# Altium integrated library TLV563x.IntLib: 30 symbols
Pins are listed as number, name and electrical type; pins without a type are passive.

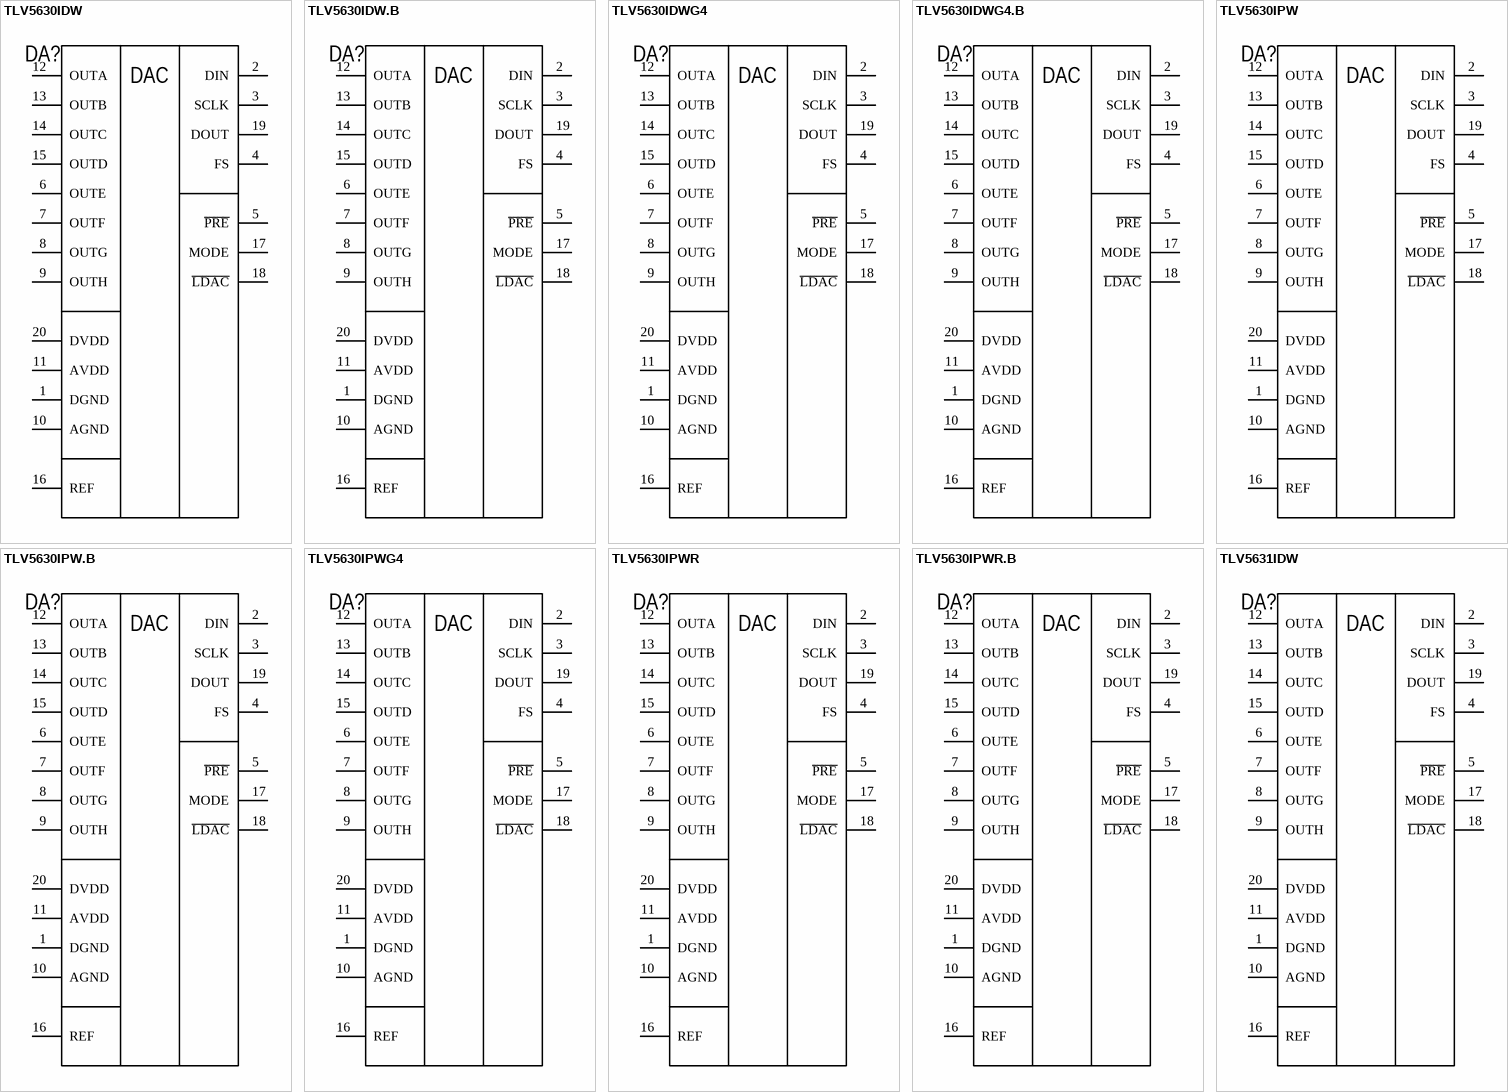
[diagram p0: symbols TLV5630IDW to TLV5631IDW]

## TLV5630IDW
designator DA?  (value not drawn)
8-CHANNEL, 12-/10-/8-BIT, 2.7-V TO 5.5-V LOW POWER DIGITAL-TO-ANALOG CONVERTERS WITH POWER DOWNANDINTERNAL REFERENCE
footprint DW0020A (SOIC, 20-Leads, Body 13.00x7.50 mm, IPC Medium Density)
pins: 1 DGND, 2 DIN, 3 SCLK, 4 FS, 5 ~{PRE}, 6 OUTE, 7 OUTF, 8 OUTG, 9 OUTH, 10 AGND, 11 AVDD, 12 OUTA, 13 OUTB, 14 OUTC, 15 OUTD, 16 REF, 17 MODE, 18 ~{LDAC}, 19 DOUT, 20 DVDD
text: DAC

## TLV5630IDW.B
designator DA?  (value not drawn)
8-CHANNEL, 12-/10-/8-BIT, 2.7-V TO 5.5-V LOW POWER DIGITAL-TO-ANALOG CONVERTERS WITH POWER DOWNANDINTERNAL REFERENCE
footprint DW0020A (SOIC, 20-Leads, Body 13.00x7.50 mm, IPC Medium Density)
pins: 1 DGND, 2 DIN, 3 SCLK, 4 FS, 5 ~{PRE}, 6 OUTE, 7 OUTF, 8 OUTG, 9 OUTH, 10 AGND, 11 AVDD, 12 OUTA, 13 OUTB, 14 OUTC, 15 OUTD, 16 REF, 17 MODE, 18 ~{LDAC}, 19 DOUT, 20 DVDD
text: DAC

## TLV5630IDWG4
designator DA?  (value not drawn)
8-CHANNEL, 12-/10-/8-BIT, 2.7-V TO 5.5-V LOW POWER DIGITAL-TO-ANALOG CONVERTERS WITH POWER DOWNANDINTERNAL REFERENCE
footprint DW0020A (SOIC, 20-Leads, Body 13.00x7.50 mm, IPC Medium Density)
pins: 1 DGND, 2 DIN, 3 SCLK, 4 FS, 5 ~{PRE}, 6 OUTE, 7 OUTF, 8 OUTG, 9 OUTH, 10 AGND, 11 AVDD, 12 OUTA, 13 OUTB, 14 OUTC, 15 OUTD, 16 REF, 17 MODE, 18 ~{LDAC}, 19 DOUT, 20 DVDD
text: DAC

## TLV5630IDWG4.B
designator DA?  (value not drawn)
8-CHANNEL, 12-/10-/8-BIT, 2.7-V TO 5.5-V LOW POWER DIGITAL-TO-ANALOG CONVERTERS WITH POWER DOWNANDINTERNAL REFERENCE
footprint DW0020A (SOIC, 20-Leads, Body 13.00x7.50 mm, IPC Medium Density)
pins: 1 DGND, 2 DIN, 3 SCLK, 4 FS, 5 ~{PRE}, 6 OUTE, 7 OUTF, 8 OUTG, 9 OUTH, 10 AGND, 11 AVDD, 12 OUTA, 13 OUTB, 14 OUTC, 15 OUTD, 16 REF, 17 MODE, 18 ~{LDAC}, 19 DOUT, 20 DVDD
text: DAC

## TLV5630IPW
designator DA?  (value not drawn)
8-CHANNEL, 12-/10-/8-BIT, 2.7-V TO 5.5-V LOW POWER DIGITAL-TO-ANALOG CONVERTERS WITH POWER DOWNANDINTERNAL REFERENCE
footprint PW0020A (TSSOP, 20-Leads, Body 6.50x4.50 mm, IPC Medium Density)
pins: 1 DGND, 2 DIN, 3 SCLK, 4 FS, 5 ~{PRE}, 6 OUTE, 7 OUTF, 8 OUTG, 9 OUTH, 10 AGND, 11 AVDD, 12 OUTA, 13 OUTB, 14 OUTC, 15 OUTD, 16 REF, 17 MODE, 18 ~{LDAC}, 19 DOUT, 20 DVDD
text: DAC

## TLV5630IPW.B
designator DA?  (value not drawn)
8-CHANNEL, 12-/10-/8-BIT, 2.7-V TO 5.5-V LOW POWER DIGITAL-TO-ANALOG CONVERTERS WITH POWER DOWNANDINTERNAL REFERENCE
footprint PW0020A (TSSOP, 20-Leads, Body 6.50x4.50 mm, IPC Medium Density)
pins: 1 DGND, 2 DIN, 3 SCLK, 4 FS, 5 ~{PRE}, 6 OUTE, 7 OUTF, 8 OUTG, 9 OUTH, 10 AGND, 11 AVDD, 12 OUTA, 13 OUTB, 14 OUTC, 15 OUTD, 16 REF, 17 MODE, 18 ~{LDAC}, 19 DOUT, 20 DVDD
text: DAC

## TLV5630IPWG4
designator DA?  (value not drawn)
8-CHANNEL, 12-/10-/8-BIT, 2.7-V TO 5.5-V LOW POWER DIGITAL-TO-ANALOG CONVERTERS WITH POWER DOWNANDINTERNAL REFERENCE
footprint PW0020A (TSSOP, 20-Leads, Body 6.50x4.50 mm, IPC Medium Density)
pins: 1 DGND, 2 DIN, 3 SCLK, 4 FS, 5 ~{PRE}, 6 OUTE, 7 OUTF, 8 OUTG, 9 OUTH, 10 AGND, 11 AVDD, 12 OUTA, 13 OUTB, 14 OUTC, 15 OUTD, 16 REF, 17 MODE, 18 ~{LDAC}, 19 DOUT, 20 DVDD
text: DAC

## TLV5630IPWR
designator DA?  (value not drawn)
8-CHANNEL, 12-/10-/8-BIT, 2.7-V TO 5.5-V LOW POWER DIGITAL-TO-ANALOG CONVERTERS WITH POWER DOWNANDINTERNAL REFERENCE
footprint PW0020A (TSSOP, 20-Leads, Body 6.50x4.50 mm, IPC Medium Density)
pins: 1 DGND, 2 DIN, 3 SCLK, 4 FS, 5 ~{PRE}, 6 OUTE, 7 OUTF, 8 OUTG, 9 OUTH, 10 AGND, 11 AVDD, 12 OUTA, 13 OUTB, 14 OUTC, 15 OUTD, 16 REF, 17 MODE, 18 ~{LDAC}, 19 DOUT, 20 DVDD
text: DAC

## TLV5630IPWR.B
designator DA?  (value not drawn)
8-CHANNEL, 12-/10-/8-BIT, 2.7-V TO 5.5-V LOW POWER DIGITAL-TO-ANALOG CONVERTERS WITH POWER DOWNANDINTERNAL REFERENCE
footprint PW0020A (TSSOP, 20-Leads, Body 6.50x4.50 mm, IPC Medium Density)
pins: 1 DGND, 2 DIN, 3 SCLK, 4 FS, 5 ~{PRE}, 6 OUTE, 7 OUTF, 8 OUTG, 9 OUTH, 10 AGND, 11 AVDD, 12 OUTA, 13 OUTB, 14 OUTC, 15 OUTD, 16 REF, 17 MODE, 18 ~{LDAC}, 19 DOUT, 20 DVDD
text: DAC

## TLV5631IDW
designator DA?  (value not drawn)
8-CHANNEL, 12-/10-/8-BIT, 2.7-V TO 5.5-V LOW POWER DIGITAL-TO-ANALOG CONVERTERS WITH POWER DOWNANDINTERNAL REFERENCE
footprint DW0020A (SOIC, 20-Leads, Body 13.00x7.50 mm, IPC Medium Density)
pins: 1 DGND, 2 DIN, 3 SCLK, 4 FS, 5 ~{PRE}, 6 OUTE, 7 OUTF, 8 OUTG, 9 OUTH, 10 AGND, 11 AVDD, 12 OUTA, 13 OUTB, 14 OUTC, 15 OUTD, 16 REF, 17 MODE, 18 ~{LDAC}, 19 DOUT, 20 DVDD
text: DAC

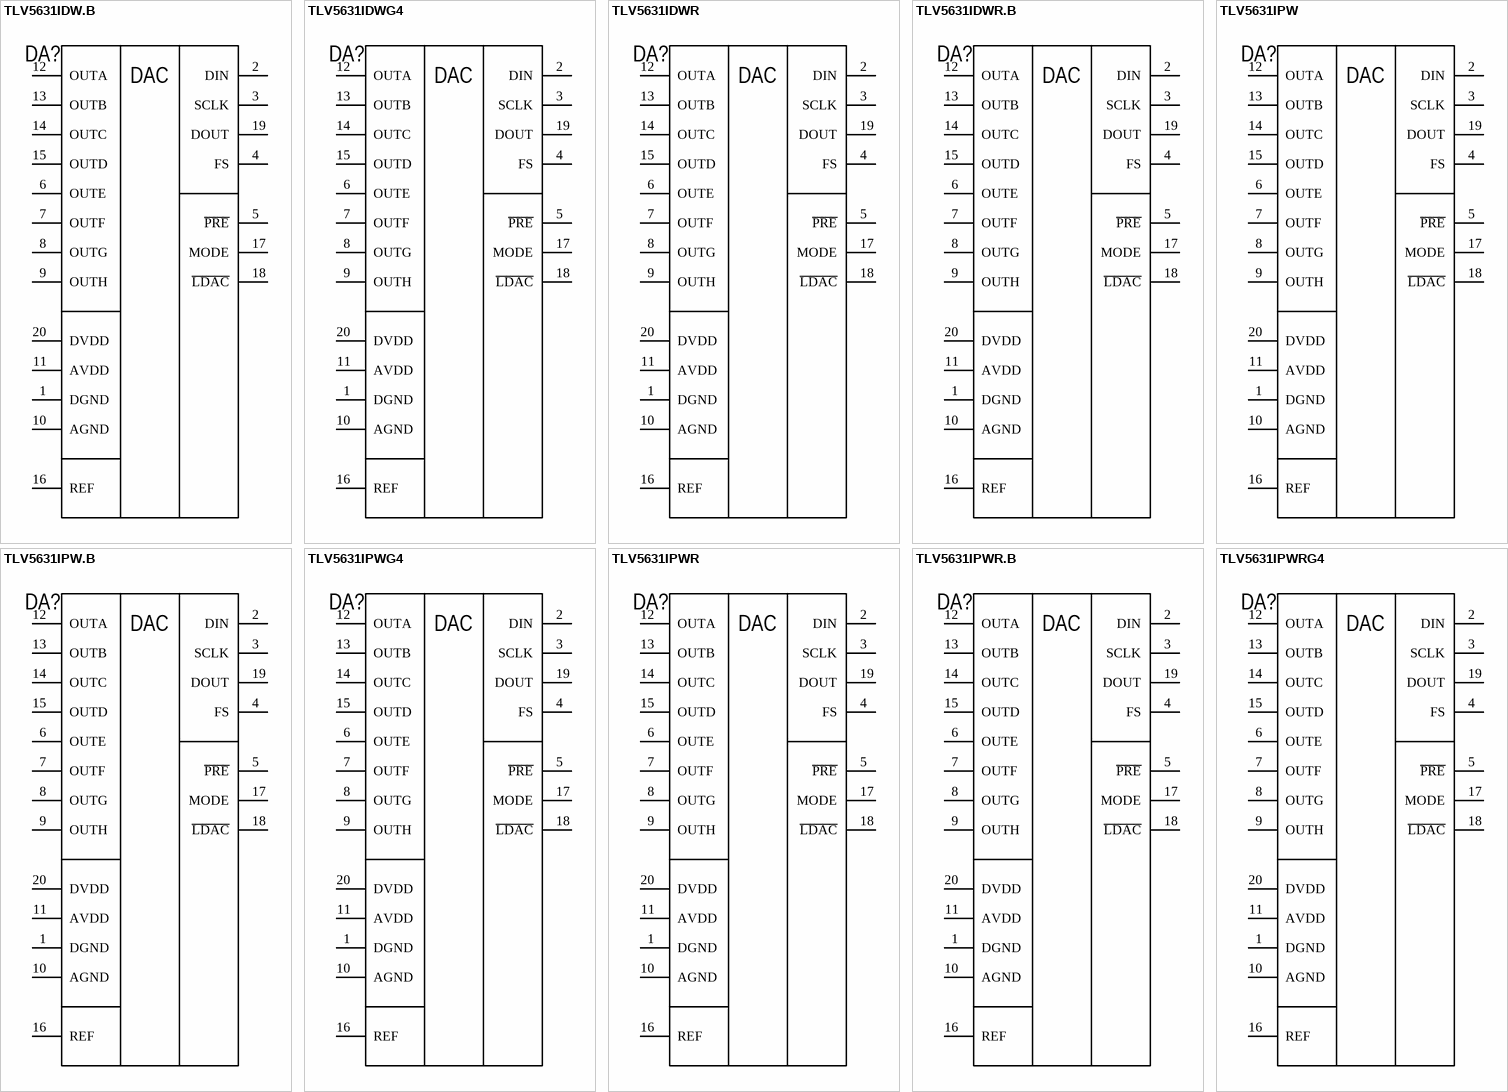
[diagram p1: symbols TLV5631IDW.B to TLV5631IPWRG4]

## TLV5631IDW.B
designator DA?  (value not drawn)
8-CHANNEL, 12-/10-/8-BIT, 2.7-V TO 5.5-V LOW POWER DIGITAL-TO-ANALOG CONVERTERS WITH POWER DOWNANDINTERNAL REFERENCE
footprint DW0020A (SOIC, 20-Leads, Body 13.00x7.50 mm, IPC Medium Density)
pins: 1 DGND, 2 DIN, 3 SCLK, 4 FS, 5 ~{PRE}, 6 OUTE, 7 OUTF, 8 OUTG, 9 OUTH, 10 AGND, 11 AVDD, 12 OUTA, 13 OUTB, 14 OUTC, 15 OUTD, 16 REF, 17 MODE, 18 ~{LDAC}, 19 DOUT, 20 DVDD
text: DAC

## TLV5631IDWG4
designator DA?  (value not drawn)
8-CHANNEL, 12-/10-/8-BIT, 2.7-V TO 5.5-V LOW POWER DIGITAL-TO-ANALOG CONVERTERS WITH POWER DOWNANDINTERNAL REFERENCE
footprint DW0020A (SOIC, 20-Leads, Body 13.00x7.50 mm, IPC Medium Density)
pins: 1 DGND, 2 DIN, 3 SCLK, 4 FS, 5 ~{PRE}, 6 OUTE, 7 OUTF, 8 OUTG, 9 OUTH, 10 AGND, 11 AVDD, 12 OUTA, 13 OUTB, 14 OUTC, 15 OUTD, 16 REF, 17 MODE, 18 ~{LDAC}, 19 DOUT, 20 DVDD
text: DAC

## TLV5631IDWR
designator DA?  (value not drawn)
8-CHANNEL, 12-/10-/8-BIT, 2.7-V TO 5.5-V LOW POWER DIGITAL-TO-ANALOG CONVERTERS WITH POWER DOWNANDINTERNAL REFERENCE
footprint DW0020A (SOIC, 20-Leads, Body 13.00x7.50 mm, IPC Medium Density)
pins: 1 DGND, 2 DIN, 3 SCLK, 4 FS, 5 ~{PRE}, 6 OUTE, 7 OUTF, 8 OUTG, 9 OUTH, 10 AGND, 11 AVDD, 12 OUTA, 13 OUTB, 14 OUTC, 15 OUTD, 16 REF, 17 MODE, 18 ~{LDAC}, 19 DOUT, 20 DVDD
text: DAC

## TLV5631IDWR.B
designator DA?  (value not drawn)
8-CHANNEL, 12-/10-/8-BIT, 2.7-V TO 5.5-V LOW POWER DIGITAL-TO-ANALOG CONVERTERS WITH POWER DOWNANDINTERNAL REFERENCE
footprint DW0020A (SOIC, 20-Leads, Body 13.00x7.50 mm, IPC Medium Density)
pins: 1 DGND, 2 DIN, 3 SCLK, 4 FS, 5 ~{PRE}, 6 OUTE, 7 OUTF, 8 OUTG, 9 OUTH, 10 AGND, 11 AVDD, 12 OUTA, 13 OUTB, 14 OUTC, 15 OUTD, 16 REF, 17 MODE, 18 ~{LDAC}, 19 DOUT, 20 DVDD
text: DAC

## TLV5631IPW
designator DA?  (value not drawn)
8-CHANNEL, 12-/10-/8-BIT, 2.7-V TO 5.5-V LOW POWER DIGITAL-TO-ANALOG CONVERTERS WITH POWER DOWNANDINTERNAL REFERENCE
footprint PW0020A (TSSOP, 20-Leads, Body 6.50x4.50 mm, IPC Medium Density)
pins: 1 DGND, 2 DIN, 3 SCLK, 4 FS, 5 ~{PRE}, 6 OUTE, 7 OUTF, 8 OUTG, 9 OUTH, 10 AGND, 11 AVDD, 12 OUTA, 13 OUTB, 14 OUTC, 15 OUTD, 16 REF, 17 MODE, 18 ~{LDAC}, 19 DOUT, 20 DVDD
text: DAC

## TLV5631IPW.B
designator DA?  (value not drawn)
8-CHANNEL, 12-/10-/8-BIT, 2.7-V TO 5.5-V LOW POWER DIGITAL-TO-ANALOG CONVERTERS WITH POWER DOWNANDINTERNAL REFERENCE
footprint PW0020A (TSSOP, 20-Leads, Body 6.50x4.50 mm, IPC Medium Density)
pins: 1 DGND, 2 DIN, 3 SCLK, 4 FS, 5 ~{PRE}, 6 OUTE, 7 OUTF, 8 OUTG, 9 OUTH, 10 AGND, 11 AVDD, 12 OUTA, 13 OUTB, 14 OUTC, 15 OUTD, 16 REF, 17 MODE, 18 ~{LDAC}, 19 DOUT, 20 DVDD
text: DAC

## TLV5631IPWG4
designator DA?  (value not drawn)
8-CHANNEL, 12-/10-/8-BIT, 2.7-V TO 5.5-V LOW POWER DIGITAL-TO-ANALOG CONVERTERS WITH POWER DOWNANDINTERNAL REFERENCE
footprint PW0020A (TSSOP, 20-Leads, Body 6.50x4.50 mm, IPC Medium Density)
pins: 1 DGND, 2 DIN, 3 SCLK, 4 FS, 5 ~{PRE}, 6 OUTE, 7 OUTF, 8 OUTG, 9 OUTH, 10 AGND, 11 AVDD, 12 OUTA, 13 OUTB, 14 OUTC, 15 OUTD, 16 REF, 17 MODE, 18 ~{LDAC}, 19 DOUT, 20 DVDD
text: DAC

## TLV5631IPWR
designator DA?  (value not drawn)
8-CHANNEL, 12-/10-/8-BIT, 2.7-V TO 5.5-V LOW POWER DIGITAL-TO-ANALOG CONVERTERS WITH POWER DOWNANDINTERNAL REFERENCE
footprint PW0020A (TSSOP, 20-Leads, Body 6.50x4.50 mm, IPC Medium Density)
pins: 1 DGND, 2 DIN, 3 SCLK, 4 FS, 5 ~{PRE}, 6 OUTE, 7 OUTF, 8 OUTG, 9 OUTH, 10 AGND, 11 AVDD, 12 OUTA, 13 OUTB, 14 OUTC, 15 OUTD, 16 REF, 17 MODE, 18 ~{LDAC}, 19 DOUT, 20 DVDD
text: DAC

## TLV5631IPWR.B
designator DA?  (value not drawn)
8-CHANNEL, 12-/10-/8-BIT, 2.7-V TO 5.5-V LOW POWER DIGITAL-TO-ANALOG CONVERTERS WITH POWER DOWNANDINTERNAL REFERENCE
footprint PW0020A (TSSOP, 20-Leads, Body 6.50x4.50 mm, IPC Medium Density)
pins: 1 DGND, 2 DIN, 3 SCLK, 4 FS, 5 ~{PRE}, 6 OUTE, 7 OUTF, 8 OUTG, 9 OUTH, 10 AGND, 11 AVDD, 12 OUTA, 13 OUTB, 14 OUTC, 15 OUTD, 16 REF, 17 MODE, 18 ~{LDAC}, 19 DOUT, 20 DVDD
text: DAC

## TLV5631IPWRG4
designator DA?  (value not drawn)
8-CHANNEL, 12-/10-/8-BIT, 2.7-V TO 5.5-V LOW POWER DIGITAL-TO-ANALOG CONVERTERS WITH POWER DOWNANDINTERNAL REFERENCE
footprint PW0020A (TSSOP, 20-Leads, Body 6.50x4.50 mm, IPC Medium Density)
pins: 1 DGND, 2 DIN, 3 SCLK, 4 FS, 5 ~{PRE}, 6 OUTE, 7 OUTF, 8 OUTG, 9 OUTH, 10 AGND, 11 AVDD, 12 OUTA, 13 OUTB, 14 OUTC, 15 OUTD, 16 REF, 17 MODE, 18 ~{LDAC}, 19 DOUT, 20 DVDD
text: DAC

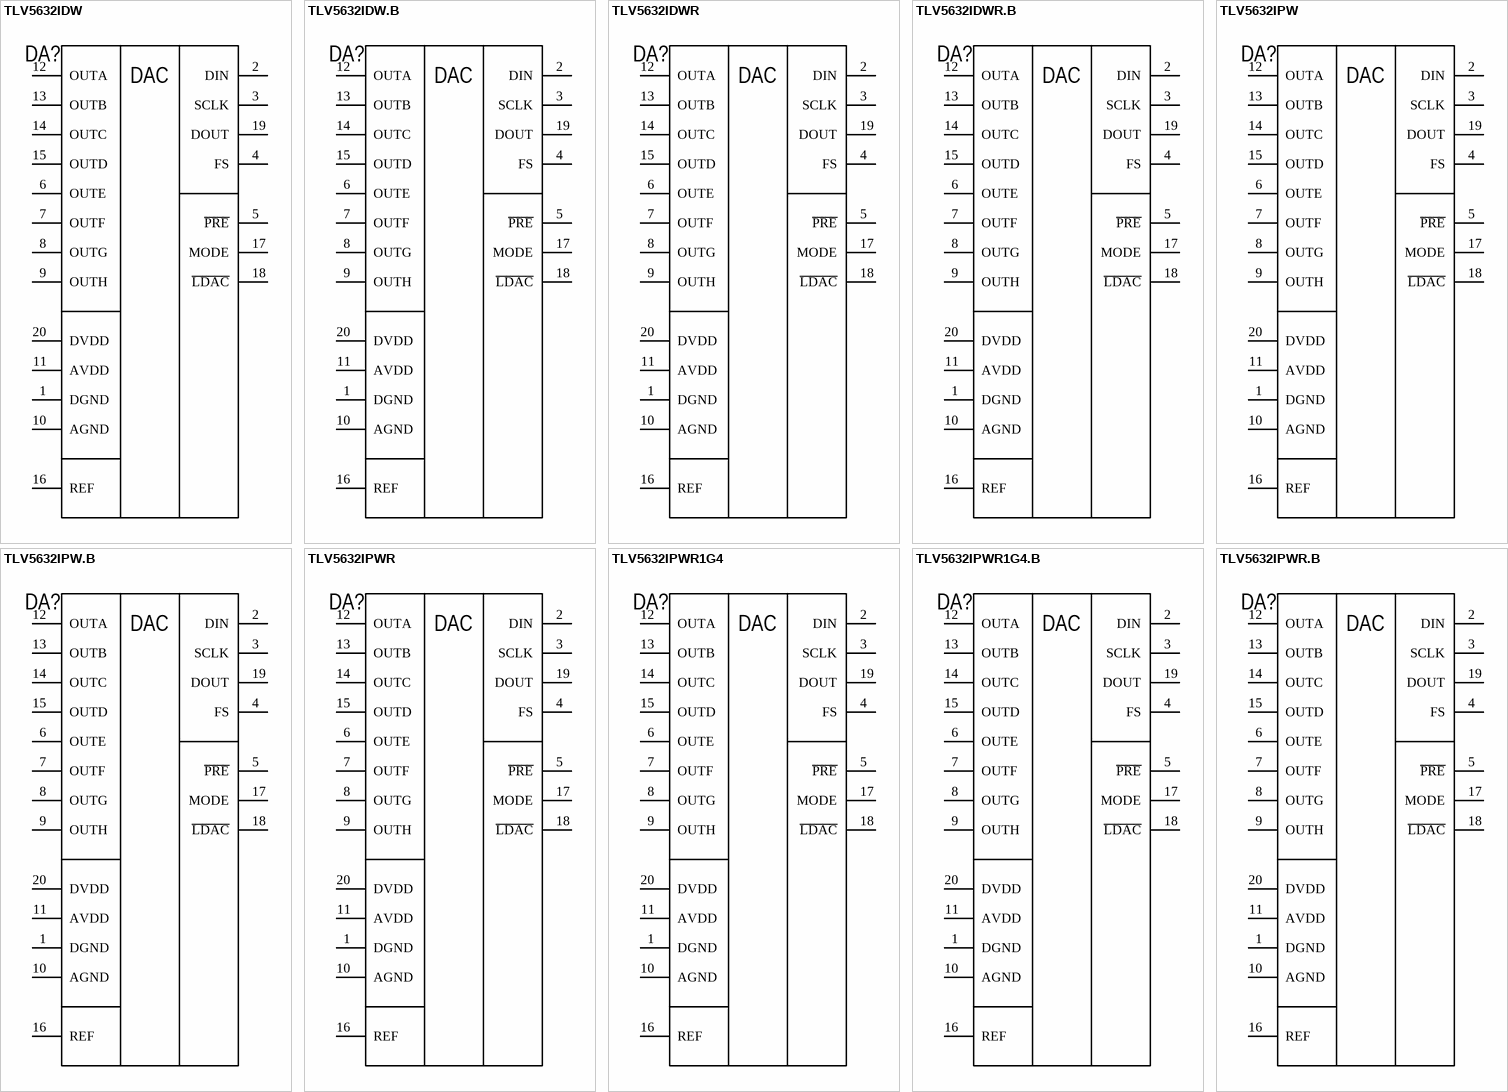
[diagram p2: symbols TLV5632IDW to TLV5632IPWR.B]

## TLV5632IDW
designator DA?  (value not drawn)
8-CHANNEL, 12-/10-/8-BIT, 2.7-V TO 5.5-V LOW POWER DIGITAL-TO-ANALOG CONVERTERS WITH POWER DOWNANDINTERNAL REFERENCE
footprint DW0020A (SOIC, 20-Leads, Body 13.00x7.50 mm, IPC Medium Density)
pins: 1 DGND, 2 DIN, 3 SCLK, 4 FS, 5 ~{PRE}, 6 OUTE, 7 OUTF, 8 OUTG, 9 OUTH, 10 AGND, 11 AVDD, 12 OUTA, 13 OUTB, 14 OUTC, 15 OUTD, 16 REF, 17 MODE, 18 ~{LDAC}, 19 DOUT, 20 DVDD
text: DAC

## TLV5632IDW.B
designator DA?  (value not drawn)
8-CHANNEL, 12-/10-/8-BIT, 2.7-V TO 5.5-V LOW POWER DIGITAL-TO-ANALOG CONVERTERS WITH POWER DOWNANDINTERNAL REFERENCE
footprint DW0020A (SOIC, 20-Leads, Body 13.00x7.50 mm, IPC Medium Density)
pins: 1 DGND, 2 DIN, 3 SCLK, 4 FS, 5 ~{PRE}, 6 OUTE, 7 OUTF, 8 OUTG, 9 OUTH, 10 AGND, 11 AVDD, 12 OUTA, 13 OUTB, 14 OUTC, 15 OUTD, 16 REF, 17 MODE, 18 ~{LDAC}, 19 DOUT, 20 DVDD
text: DAC

## TLV5632IDWR
designator DA?  (value not drawn)
8-CHANNEL, 12-/10-/8-BIT, 2.7-V TO 5.5-V LOW POWER DIGITAL-TO-ANALOG CONVERTERS WITH POWER DOWNANDINTERNAL REFERENCE
footprint DW0020A (SOIC, 20-Leads, Body 13.00x7.50 mm, IPC Medium Density)
pins: 1 DGND, 2 DIN, 3 SCLK, 4 FS, 5 ~{PRE}, 6 OUTE, 7 OUTF, 8 OUTG, 9 OUTH, 10 AGND, 11 AVDD, 12 OUTA, 13 OUTB, 14 OUTC, 15 OUTD, 16 REF, 17 MODE, 18 ~{LDAC}, 19 DOUT, 20 DVDD
text: DAC

## TLV5632IDWR.B
designator DA?  (value not drawn)
8-CHANNEL, 12-/10-/8-BIT, 2.7-V TO 5.5-V LOW POWER DIGITAL-TO-ANALOG CONVERTERS WITH POWER DOWNANDINTERNAL REFERENCE
footprint DW0020A (SOIC, 20-Leads, Body 13.00x7.50 mm, IPC Medium Density)
pins: 1 DGND, 2 DIN, 3 SCLK, 4 FS, 5 ~{PRE}, 6 OUTE, 7 OUTF, 8 OUTG, 9 OUTH, 10 AGND, 11 AVDD, 12 OUTA, 13 OUTB, 14 OUTC, 15 OUTD, 16 REF, 17 MODE, 18 ~{LDAC}, 19 DOUT, 20 DVDD
text: DAC

## TLV5632IPW
designator DA?  (value not drawn)
8-CHANNEL, 12-/10-/8-BIT, 2.7-V TO 5.5-V LOW POWER DIGITAL-TO-ANALOG CONVERTERS WITH POWER DOWNANDINTERNAL REFERENCE
footprint PW0020A (TSSOP, 20-Leads, Body 6.50x4.50 mm, IPC Medium Density)
pins: 1 DGND, 2 DIN, 3 SCLK, 4 FS, 5 ~{PRE}, 6 OUTE, 7 OUTF, 8 OUTG, 9 OUTH, 10 AGND, 11 AVDD, 12 OUTA, 13 OUTB, 14 OUTC, 15 OUTD, 16 REF, 17 MODE, 18 ~{LDAC}, 19 DOUT, 20 DVDD
text: DAC

## TLV5632IPW.B
designator DA?  (value not drawn)
8-CHANNEL, 12-/10-/8-BIT, 2.7-V TO 5.5-V LOW POWER DIGITAL-TO-ANALOG CONVERTERS WITH POWER DOWNANDINTERNAL REFERENCE
footprint PW0020A (TSSOP, 20-Leads, Body 6.50x4.50 mm, IPC Medium Density)
pins: 1 DGND, 2 DIN, 3 SCLK, 4 FS, 5 ~{PRE}, 6 OUTE, 7 OUTF, 8 OUTG, 9 OUTH, 10 AGND, 11 AVDD, 12 OUTA, 13 OUTB, 14 OUTC, 15 OUTD, 16 REF, 17 MODE, 18 ~{LDAC}, 19 DOUT, 20 DVDD
text: DAC

## TLV5632IPWR
designator DA?  (value not drawn)
8-CHANNEL, 12-/10-/8-BIT, 2.7-V TO 5.5-V LOW POWER DIGITAL-TO-ANALOG CONVERTERS WITH POWER DOWNANDINTERNAL REFERENCE
footprint PW0020A (TSSOP, 20-Leads, Body 6.50x4.50 mm, IPC Medium Density)
pins: 1 DGND, 2 DIN, 3 SCLK, 4 FS, 5 ~{PRE}, 6 OUTE, 7 OUTF, 8 OUTG, 9 OUTH, 10 AGND, 11 AVDD, 12 OUTA, 13 OUTB, 14 OUTC, 15 OUTD, 16 REF, 17 MODE, 18 ~{LDAC}, 19 DOUT, 20 DVDD
text: DAC

## TLV5632IPWR1G4
designator DA?  (value not drawn)
8-CHANNEL, 12-/10-/8-BIT, 2.7-V TO 5.5-V LOW POWER DIGITAL-TO-ANALOG CONVERTERS WITH POWER DOWNANDINTERNAL REFERENCE
footprint PW0020A (TSSOP, 20-Leads, Body 6.50x4.50 mm, IPC Medium Density)
pins: 1 DGND, 2 DIN, 3 SCLK, 4 FS, 5 ~{PRE}, 6 OUTE, 7 OUTF, 8 OUTG, 9 OUTH, 10 AGND, 11 AVDD, 12 OUTA, 13 OUTB, 14 OUTC, 15 OUTD, 16 REF, 17 MODE, 18 ~{LDAC}, 19 DOUT, 20 DVDD
text: DAC

## TLV5632IPWR1G4.B
designator DA?  (value not drawn)
8-CHANNEL, 12-/10-/8-BIT, 2.7-V TO 5.5-V LOW POWER DIGITAL-TO-ANALOG CONVERTERS WITH POWER DOWNANDINTERNAL REFERENCE
footprint PW0020A (TSSOP, 20-Leads, Body 6.50x4.50 mm, IPC Medium Density)
pins: 1 DGND, 2 DIN, 3 SCLK, 4 FS, 5 ~{PRE}, 6 OUTE, 7 OUTF, 8 OUTG, 9 OUTH, 10 AGND, 11 AVDD, 12 OUTA, 13 OUTB, 14 OUTC, 15 OUTD, 16 REF, 17 MODE, 18 ~{LDAC}, 19 DOUT, 20 DVDD
text: DAC

## TLV5632IPWR.B
designator DA?  (value not drawn)
8-CHANNEL, 12-/10-/8-BIT, 2.7-V TO 5.5-V LOW POWER DIGITAL-TO-ANALOG CONVERTERS WITH POWER DOWNANDINTERNAL REFERENCE
footprint PW0020A (TSSOP, 20-Leads, Body 6.50x4.50 mm, IPC Medium Density)
pins: 1 DGND, 2 DIN, 3 SCLK, 4 FS, 5 ~{PRE}, 6 OUTE, 7 OUTF, 8 OUTG, 9 OUTH, 10 AGND, 11 AVDD, 12 OUTA, 13 OUTB, 14 OUTC, 15 OUTD, 16 REF, 17 MODE, 18 ~{LDAC}, 19 DOUT, 20 DVDD
text: DAC